# Altium schematic symbol library DAC908.Schlib: 1 symbol
Pins are listed as number, name and electrical type; pins without a type are passive.

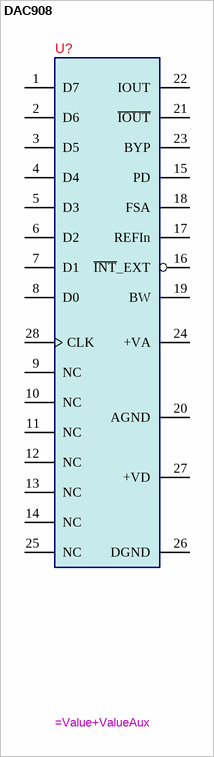
[diagram p0: symbol DAC908]

## DAC908
designator U?
=Designator
pins: 1 D7, 2 D6, 3 D5, 4 D4, 5 D3, 6 D2, 7 D1, 8 D0, 9 NC, 10 NC, 11 NC, 12 NC, 13 NC, 14 NC, 15 PD, 16 ~{INT}_EXT, 17 REFIn, 18 FSA, 19 BW, 20 AGND, 21 ~{IOUT}, 22 IOUT, 23 BYP, 24 +VA, 25 NC, 26 DGND, 27 +VD, 28 CLK